# EAGLE library part RCLAMP1654P.TCT (library RCLAMP1654P.TCT)
Semtech RCLAMP1654P.TCT Triple Uni-Directional TVS Diode Array, 200W peak, 6-Pin SLP EP Source: Datasheet <https://www.arrow.com/en/products/rclamp1654p.tct/semtech>
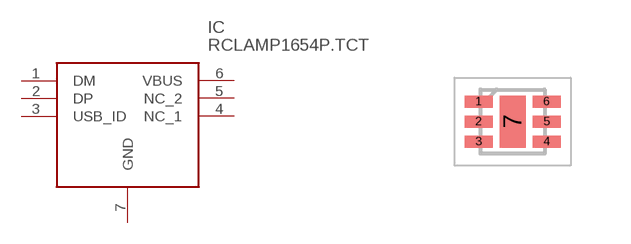
[diagram p0: symbol with the pads of SON50P160X160X65-7N; footprint SON50P160X160X65-7N]

Designator prefix IC

## RCLAMP1654P.TCT (Description: Semtech RCLAMP1654P.TCT Triple Uni-Directional TVS Diode Array, 200W peak, 6-Pin SLP EP; Height: 0.65mm; Manufacturer_Name: SEMTECH; Manufacturer_Part_Number: RCLAMP1654P.TCT; Mouser_Part_Number: 947-RCLAMP1654P.TCT; Mouser_Price-Stock: https://www.mouser.co.uk/ProductDetail/Semtech/RCLAMP1654P.TCT?qs=rBWM4%252BvDhIfGmhnOIHwLRQ%3D%3D)  [SON50P160X160X65-7N]
1  DM
2  DP
3  USB_ID
4  NC_1
5  NC_2
6  VBUS
7  GND

## Footprint SON50P160X160X65-7N (pad centres in mm)
QFN-7
smd 0.7 x 0.3: 1 -0.85,0.5; 2 -0.85,0; 3 -0.85,-0.5; 4 0.85,-0.5; 5 0.85,0; 6 0.85,0.5
smd 0.65 x 1.3: 7 0,0